# EAGLE library part TRF7970ARHBT (library TRF7970A)
RFID AND NEAR FIELD COMMUNICATION TRANSCEIVER IC,QFN-32
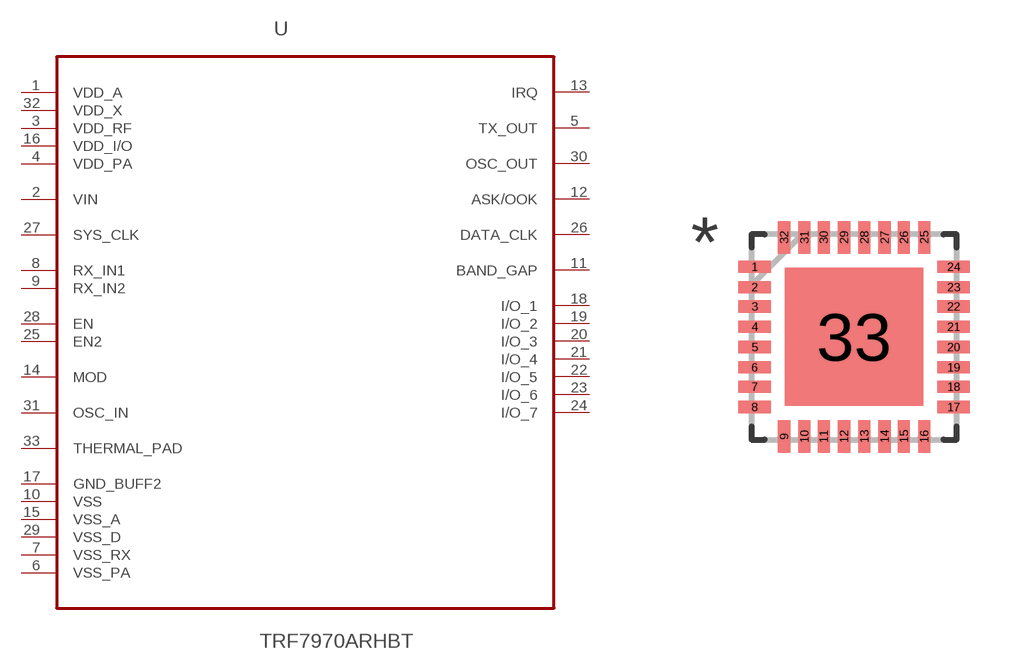
[diagram p0: symbol with the pads of QFN50P515X515X100-33N; footprint QFN50P515X515X100-33N]

Designator prefix U

## TRF7970ARHBT (MPN: TRF7970ARHBT; OC_FARNELL: 2053847; OC_NEWARK: 52T8845; PACKAGE: QFN-32; SUPPLIER: TEXAS INSTRUMENTS)  [QFN50P515X515X100-33N]
1  VDD_A  pwr
2  VIN  pwr
3  VDD_RF  pwr
4  VDD_PA  pwr
5  TX_OUT  out
6  VSS_PA  pas
7  VSS_RX  pas
8  RX_IN1  in
9  RX_IN2  in
10  VSS  pas
11  BAND_GAP  out
12  ASK/OOK  out
13  IRQ  out
14  MOD  in
15  VSS_A  pas
16  VDD_I/O  pwr
17  GND_BUFF2  pas
18  I/O_1
19  I/O_2
20  I/O_3
21  I/O_4
22  I/O_5
23  I/O_6
24  I/O_7
25  EN2  in
26  DATA_CLK  out
27  SYS_CLK  pwr
28  EN  in
29  VSS_D  pas
30  OSC_OUT  out
31  OSC_IN  in
32  VDD_X  pwr
33  THERMAL_PAD  pas

## Footprint QFN50P515X515X100-33N (pad centres in mm)
smd 0.813 x 0.305: 1 -2.489,1.753; 2 -2.489,1.245; 3 -2.489,0.762; 4 -2.489,0.254; 5 -2.489,-0.254; 6 -2.489,-0.762; 7 -2.489,-1.245; 8 -2.489,-1.753; 17 2.489,-1.753; 18 2.489,-1.245; 19 2.489,-0.762; 20 2.489,-0.254; 21 2.489,0.254; 22 2.489,0.762; 23 2.489,1.245; 24 2.489,1.753
smd 0.305 x 0.813: 9 -1.753,-2.489; 10 -1.245,-2.489; 11 -0.762,-2.489; 12 -0.254,-2.489; 13 0.254,-2.489; 14 0.762,-2.489; 15 1.245,-2.489; 16 1.753,-2.489; 25 1.753,2.489; 26 1.245,2.489; 27 0.762,2.489; 28 0.254,2.489; 29 -0.254,2.489; 30 -0.762,2.489; 31 -1.245,2.489; 32 -1.753,2.489
smd 3.454 x 3.454: 33 0,0